# Altium schematic symbol library antenna.SchLib: 1 symbol
Pins are listed as number, name and electrical type; pins without a type are passive.

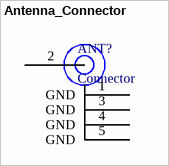
[diagram p0: symbol Antenna_Connector]

## Antenna_Connector
designator ANT?, comment Connector
footprint RP-SMA
pins: 1 GND, 2 ANT, 3 GND, 4 GND, 5 GND